# EAGLE library part TJA1042T (library TJA1042T)
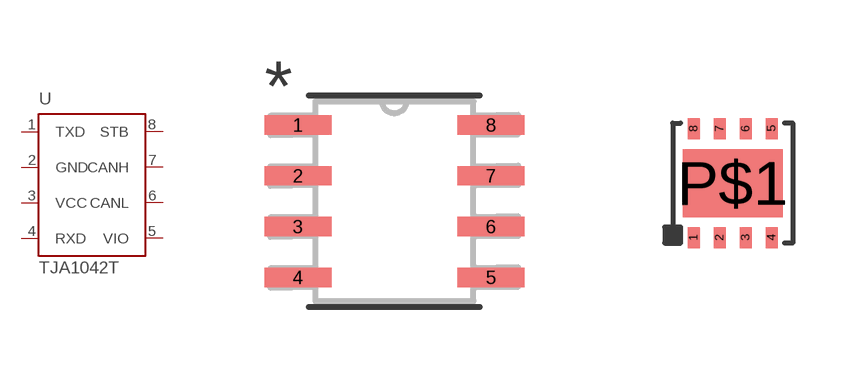
[diagram p0: symbol with the pads of SO-8-L; footprints SO-8-L, HVSON8]

Designator prefix -

## TJA1042T/3  [SO-8-L]
1  TXD  in
2  GND  pas
3  VCC  pwr
4  RXD  out
5  VIO  pwr
6  CANL  out
7  CANH  out
8  STB  in

## TJA1042TK/3  [HVSON8]
Pads as for SO-8-L

## Footprint SO-8-L (pad centres in mm)
smd 1.676 x 0.483: 1 -2.413,1.905; 2 -2.413,0.635; 3 -2.413,-0.635; 4 -2.413,-1.905; 5 2.413,-1.905; 6 2.413,-0.635; 7 2.413,0.635; 8 2.413,1.905

## Footprint HVSON8 (pad centres in mm)
smd 0.3 x 0.525: 1 -0.975,-1.363; 2 -0.325,-1.363; 3 0.325,-1.363; 4 0.975,-1.363; 5 0.975,1.363; 6 0.325,1.363; 7 -0.325,1.363; 8 -0.975,1.363
smd 2.5 x 1.7: P$1 0,0